# Altium schematic symbol library MAX14920.SchLib: 2 symbols
Pins are listed as number, name and electrical type; pins without a type are passive.

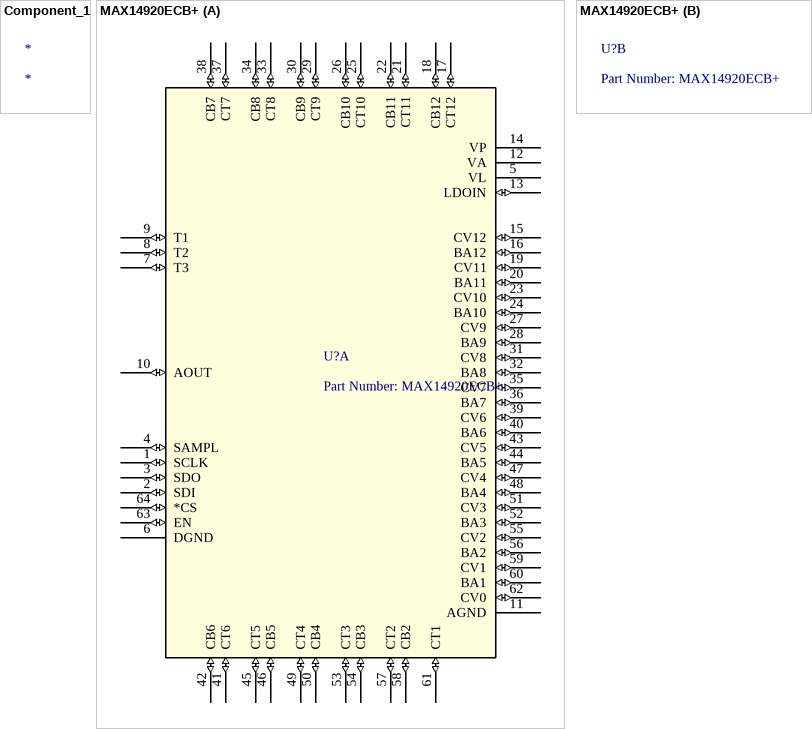
[diagram p0: symbols Component_1 to MAX14920ECB+]

## Component_1
designator *

## MAX14920ECB+
designator U?, comment Part Number: MAX14920ECB+
No Description Available; Built_By: EMA_UL_Team; Vendor: Maxim Integrated Products; Manufacturer_Part_Number: MAX14920ECB+; Copyright: Copyright (C) 2018 Accelerated Designs. All rights reserved; RefDes: RefDes; Type: DEV; Value: Value
footprint 21-0084C
part A pins: 1 SCLK (io), 2 SDI (io), 3 SDO (io), 4 SAMPL (io), 5 VL (power), 6 DGND (power), 7 T3 (io), 8 T2 (io), 9 T1 (io), 10 AOUT (io), 11 AGND (power), 12 VA (power), 13 LDOIN (io), 14 VP (power), 15 CV12 (io), 16 BA12 (io), 17 CT12 (io), 18 CB12 (io), 19 CV11 (io), 20 BA11 (io), 21 CT11 (io), 22 CB11 (io), 23 CV10 (io), 24 BA10 (io), 25 CT10 (io), 26 CB10 (io), 27 CV9 (io), 28 BA9 (io), 29 CT9 (io), 30 CB9 (io), 31 CV8 (io), 32 BA8 (io), 33 CT8 (io), 34 CB8 (io), 35 CV7 (io), 36 BA7 (io), 37 CT7 (io), 38 CB7 (io), 39 CV6 (io), 40 BA6 (io), 41 CT6 (io), 42 CB6 (io), 43 CV5 (io), 44 BA5 (io), 45 CT5 (io), 46 CB5 (io), 47 CV4 (io), 48 BA4 (io), 49 CT4 (io), 50 CB4 (io), 51 CV3 (io), 52 BA3 (io), 53 CT3 (io), 54 CB3 (io), 55 CV2 (io), 56 BA2 (io), 57 CT2 (io), 58 CB2 (io), 59 CV1 (io), 60 BA1 (io), 61 CT1 (io), 62 CV0 (io), 63 EN (io), 64 *CS (io)